# Altium schematic symbol library VREG.SchLib: 1 symbol
Pins are listed as number, name and electrical type; pins without a type are passive.

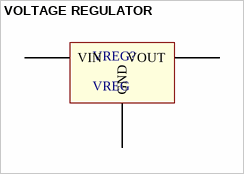
[diagram p0: symbol VOLTAGE REGULATOR]

## VOLTAGE REGULATOR
designator VREG?, comment VREG
VOLTAGE REGULATOR
footprint TO-220 VREG (TO-220 PACKAGE VREG)
pins: 1 VIN, 2 GND "GRD", 3 VOUT